# Altium footprint library PcbLib1.PcbLib: 6 footprints
Each footprint in its own frame and in the unit in brackets; x right, y up, seen from the top. Pads: shape width x height; smd on the part's side, far side on the other; paste and mask are expansions set on the pad; w line width, h text height; cw(c..) or ccw(c..) is an arc to the next point about the centre after c.
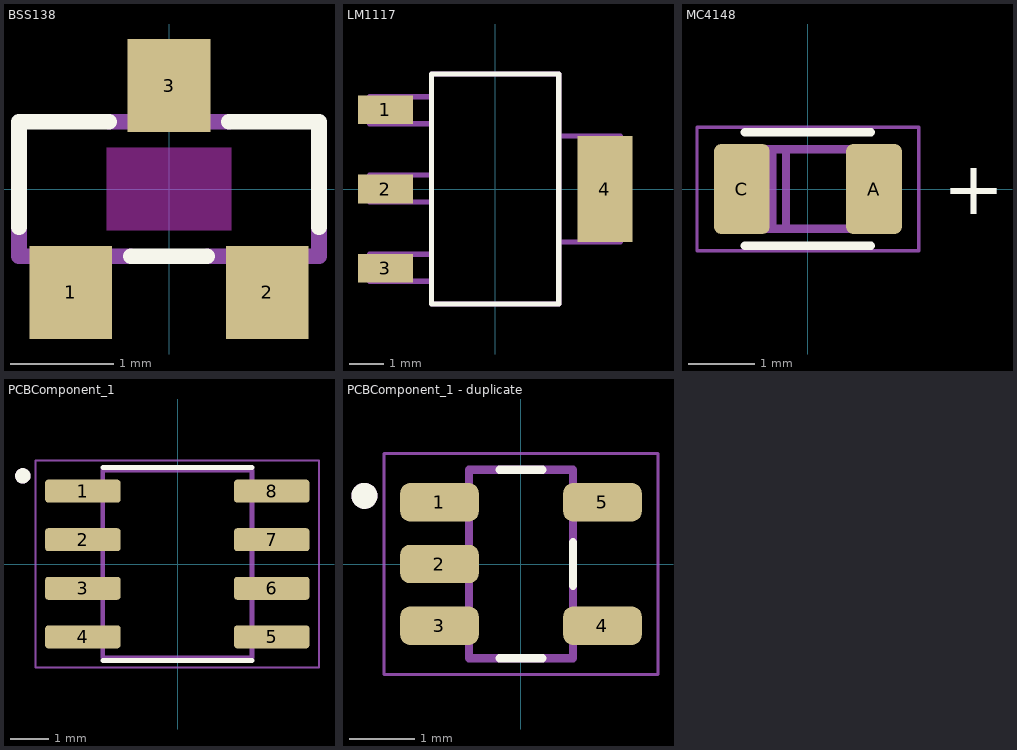
[diagram p0: the footprints below, top view; thin cyan lines are the x and y axes]

## BSS138 [mm]
pads (3):
  rect 0.8x0.9 smd: 1(-0.95,-1) 2(0.95,-1) 3(0,1)
Top Overlay:
  lines w0.152: -1.45,-0.37 -1.45,0.65 -0.58,0.65 ; -0.37,-0.65 0.37,-0.65 ; 0.58,0.65 1.45,0.65 1.45,-0.37
Keep-Out Layer:
  region: 0.6,-0.4 -0.6,-0.4 -0.6,0.4 0.6,0.4
Mechanical 13:
  region: -0.75,-1.2 -1.15,-1.2 -1.15,-0.65 -0.75,-0.65
  region: 0.2,0.65 -0.2,0.65 -0.2,1.2 0.2,1.2
  region: 1.15,-1.2 0.75,-1.2 0.75,-0.65 1.15,-0.65
  lines w0.152: -1.45,-0.37 -1.45,-0.65 -0.37,-0.65 ; -0.58,0.65 0.58,0.65 ; 0.37,-0.65 1.45,-0.65 1.45,-0.37
3D body "step_temp.STEP": height 1.15, standoff 0, extent -1.45,-1.143 1.45,1.257

## CP1-12V [mm]

## LM1117 [mil]
pads (4):
  rect 63x33 smd: 1(-126,91) 2(-126,0) 3(-126,-91)
  rect 63x122 smd: 4(126,0)
Top Overlay:
  lines w6: -73,-132 -73,132 73,132 73,-132 -73,-132
Mechanical 13:
  lines w6: -144,-106 -73,-106 -73,-75 -144,-75 -144,-106 ; -144,-15 -73,-15 -73,16 -144,16 -144,-15 ; -144,75 -73,75 -73,106 -144,106 -144,75 ; -73,-132 -73,132 73,132 73,-132 -73,-132 ; 73,-61 144,-61 144,61 73,61 73,-61

## MC4148 [mm]
pads (2):
  rrect25% 0.84x1.35 smd: A(0.995,0) C(-0.995,0)
Top Overlay:
  lines w0.127: -0.95,-0.855 0.95,-0.855 ; -0.95,0.855 0.95,0.855
  text "+" at 2.033,-0.381 h0.81
Mechanical 13:
  lines w0.127: -0.54,-0.6 -0.33,-0.6 ; -0.54,-0.6 -1,-0.6 -1,0.6 -0.54,0.6 ; -0.54,-0.6 -0.54,0.6 ; -0.54,0.6 -0.33,0.6 ; -0.33,-0.6 1,-0.6 1,0.6 -0.33,0.6 ; -0.33,-0.6 -0.33,0.6
Mechanical 15:
  lines w0.05: -1.67,-0.93 1.67,-0.93 1.67,0.93 -1.67,0.93 -1.67,-0.93

## PCBComponent_1 [mm]
pads (8):
  rrect25% 1.97x0.6 smd: 1(-2.48,1.917) 2(-2.48,0.647) 3(-2.48,-0.623) 4(-2.48,-1.893) 5(2.46,-1.893) 6(2.46,-0.623) 7(2.46,0.647) 8(2.46,1.917)
Top Overlay:
  circle w0.2: c-4.05,2.317 r0.1
  lines w0.127: -1.96,-2.513 1.94,-2.513 ; -1.96,2.537 1.94,2.537
Mechanical 13:
  circle w0.2: c-4.05,2.317 r0.1
  lines w0.127: -1.96,-2.44 -1.96,2.465 1.94,2.465 1.94,-2.44 -1.96,-2.44
Mechanical 15:
  lines w0.05: -3.715,-2.69 -3.715,2.715 3.695,2.715 3.695,-2.69 -3.715,-2.69
3D body "step_temp.STEP": height 1.75, standoff 0, extent -3.007,-2.439 2.987,2.463

## PCBComponent_1 - duplicate [mm]
pads (5):
  rrect50% 1.21x0.59 smd: 1(-1.255,0.95) 2(-1.255,0) 3(-1.255,-0.95) 4(1.255,-0.95) 5(1.255,0.95)
Top Overlay:
  circle w0.2: c-2.41,1.05 r0.1
  lines w0.127: -0.33,-1.45 0.33,-1.45 ; -0.33,1.45 0.33,1.45 ; 0.8,-0.335 0.8,0.335
Mechanical 13:
  circle w0.2: c-2.41,1.05 r0.1
  lines w0.127: -0.8,-1.45 -0.8,1.45 0.8,1.45 0.8,-1.45 -0.8,-1.45
Mechanical 15:
  lines w0.05: -2.11,-1.7 2.11,-1.7 2.11,1.7 -2.11,1.7 -2.11,-1.7
3D body "step_temp.STEP": height 1.45, standoff 0, extent -1.4,-1.45 1.4,1.45